# Altium footprint library imu.PcbLib: 1 footprints
Each footprint in its own frame and in the unit in brackets; x right, y up, seen from the top. Pads: shape width x height; smd on the part's side, far side on the other; paste and mask are expansions set on the pad; w line width, h text height; cw(c..) or ccw(c..) is an arc to the next point about the centre after c.
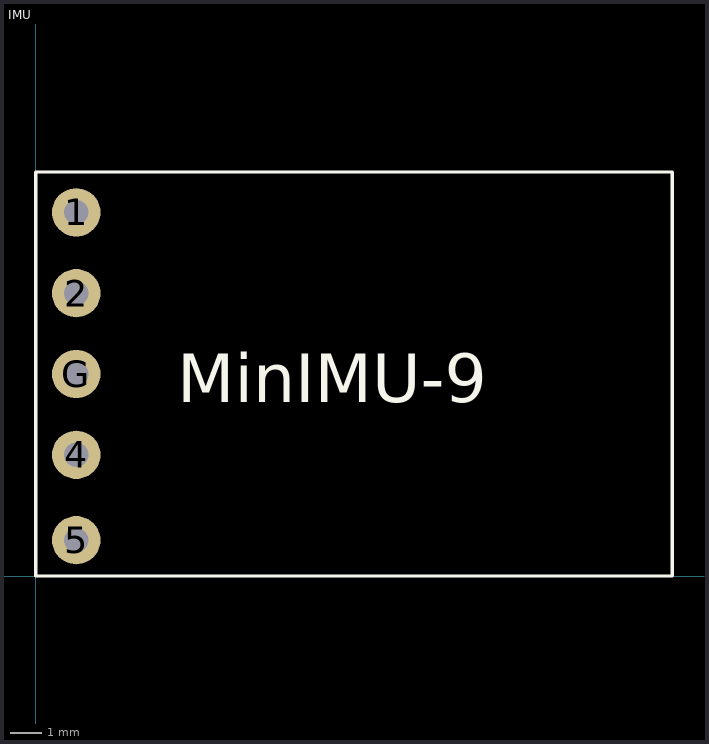
[diagram p0: the footprint, top view; thin cyan lines are the x and y axes]

## IMU [mil]
pads (5):
  round 60 hole 30: 1(50,450) 2(50,350) 4(50,150) 5(50,44.37) G(50,250)
Top Overlay:
  lines w3.94: 0,0 0,500 787.4,500 787.4,0 0,0
  text "MinIMU-9" at 175,215 h60
3D body "imu model v7.step": height 236.22, standoff -218.11, extent 0,0 800,500